# Altium schematic symbol library conn_terminalB.SchLib: 523 symbols (part 4 of 4)
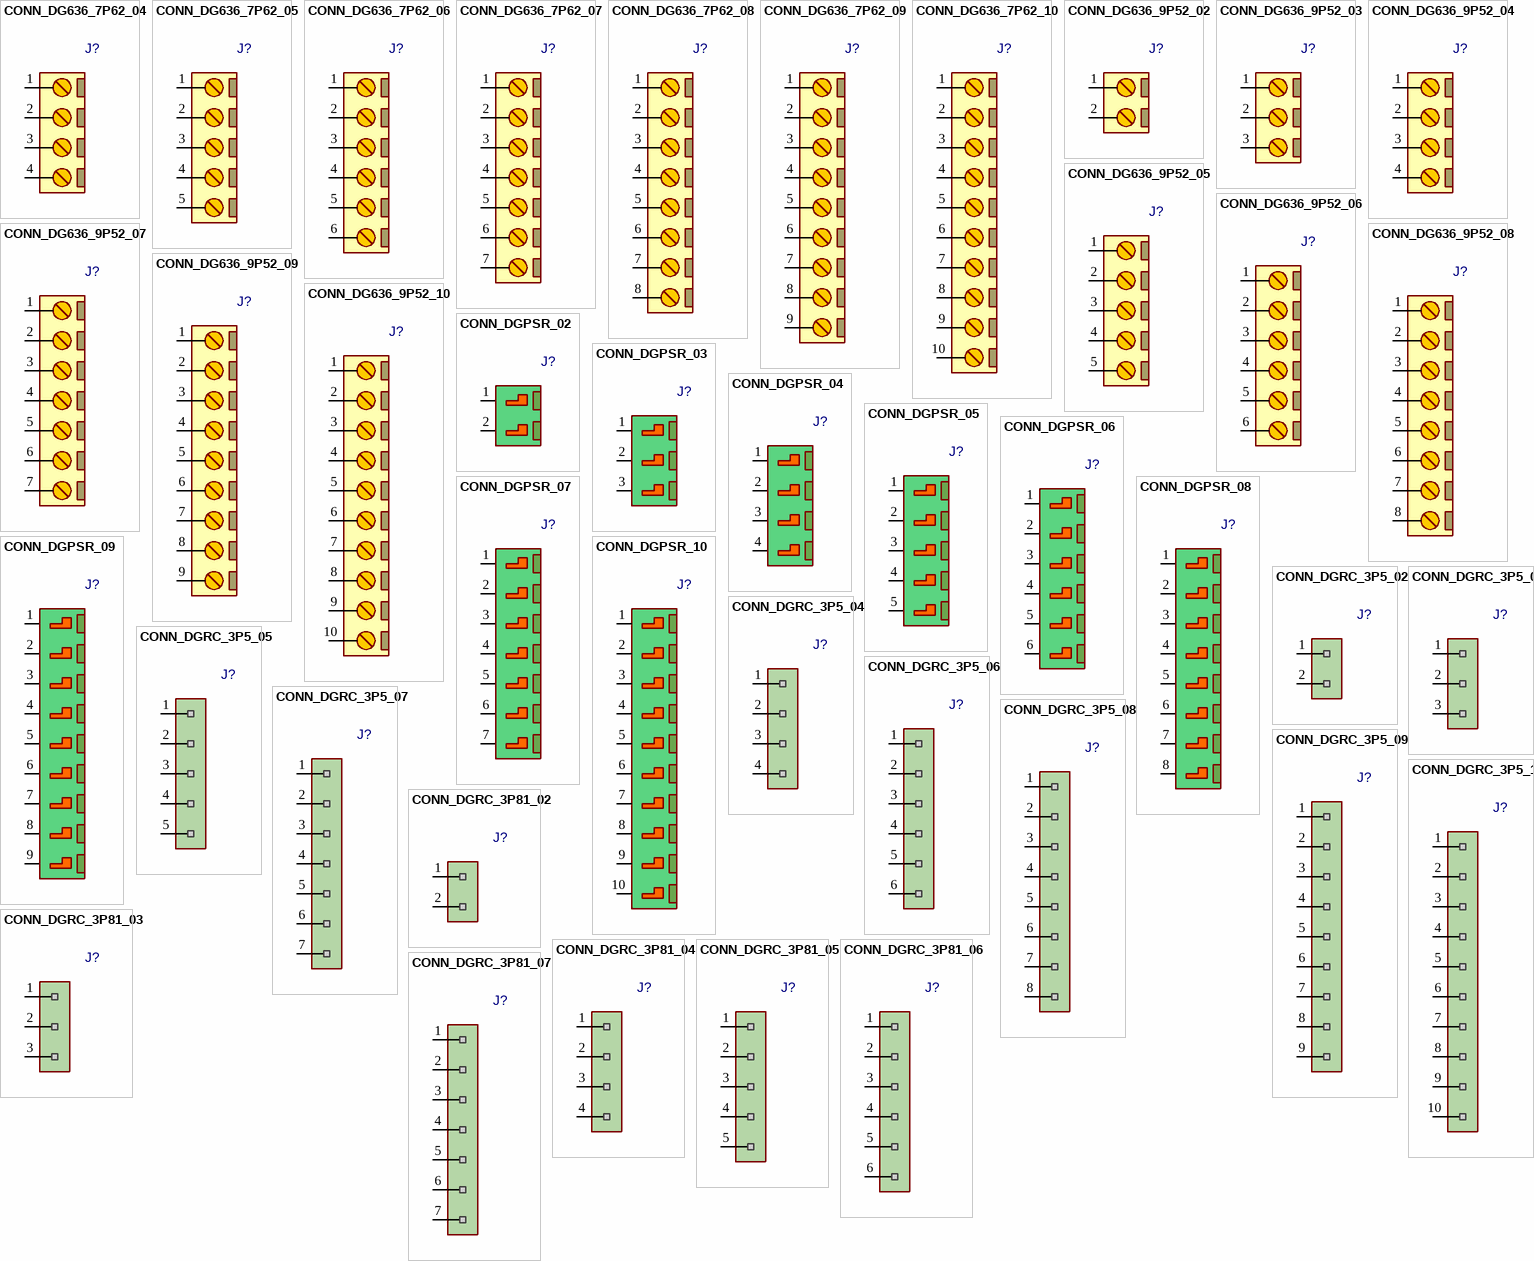
[diagram p16: symbols CONN_DG636_7P62_04 to CONN_DGRC_3P81_07]

## CONN_DG636_7P62_06
designator J?, comment DG636_7P62_06  (value not drawn)
Terminal Block Screw, Pitch 7.62mm, H 21.5mm; MANF: DEGSON; MANF_P#: DG636-7.62-06P; PARAM2: 450v, -40~105°C; PARAM: 30A; VALUE: DG636_7P62_06; Mount Type: THT; Type: Conn.
footprint DG636_7P62_06 (Terminal Screw, pitch 7.62mm, H 21.5mm)
pins: 1, 2, 3, 4, 5, 6

## CONN_DG636_7P62_07
designator J?, comment DG636_7P62_07  (value not drawn)
Terminal Block Screw, Pitch 7.62mm, H 21.5mm; MANF: DEGSON; MANF_P#: DG636-7.62-07P; PARAM2: 450v, -40~105°C; PARAM: 30A; VALUE: DG636_7P62_07; Mount Type: THT; Type: Conn.
footprint DG636_7P62_07 (Terminal Screw, pitch 7.62mm, H 21.5mm)
pins: 1, 2, 3, 4, 5, 6, 7

## CONN_DG636_7P62_08
designator J?, comment DG636_7P62_08  (value not drawn)
Terminal Block Screw, Pitch 7.62mm, H 21.5mm; MANF: DEGSON; MANF_P#: DG636-7.62-08P; PARAM2: 450v, -40~105°C; PARAM: 30A; VALUE: DG636_7P62_08; Mount Type: THT; Type: Conn.
footprint DG636_7P62_08 (Terminal Screw, pitch 7.62mm, H 21.5mm)
pins: 1, 2, 3, 4, 5, 6, 7, 8

## CONN_DG636_7P62_09
designator J?, comment DG636_7P62_09  (value not drawn)
Terminal Block Screw, Pitch 7.62mm, H 21.5mm; MANF: DEGSON; MANF_P#: DG636-7.62-09P; PARAM2: 450v, -40~105°C; PARAM: 30A; VALUE: DG636_7P62_09; Mount Type: THT; Type: Conn.
footprint DG636_7P62_09 (Terminal Screw, pitch 7.62mm, H 21.5mm)
pins: 1, 2, 3, 4, 5, 6, 7, 8, 9

## CONN_DG636_7P62_10
designator J?, comment DG636_7P62_10  (value not drawn)
Terminal Block Screw, Pitch 7.62mm, H 21.5mm; MANF: DEGSON; MANF_P#: DG636-7.62-10P; PARAM2: 450v, -40~105°C; PARAM: 30A; VALUE: DG636_7P62_10; Mount Type: THT; Type: Conn.
footprint DG636_7P62_10 (Terminal Screw, pitch 7.62mm, H 21.5mm)
pins: 1, 2, 3, 4, 5, 6, 7, 8, 9, 10

## CONN_DG636_9P52_02
designator J?, comment DG636_9P52_02  (value not drawn)
Terminal Block Screw, Pitch 9.52mm, H 21.5mm; MANF: DEGSON; MANF_P#: DG636-9.52-02P; PARAM2: 300v, -40~105°C; PARAM: 30A; VALUE: DG636_9P52_02; Mount Type: THT; Type: Conn.
footprint DG636_9P52_02 (Terminal Block Screw, Pitch 9.52mm, 30A/300v)
pins: 1, 2

## CONN_DG636_9P52_03
designator J?, comment DG636_9P52_03  (value not drawn)
Terminal Block Screw, Pitch 9.52mm, H 21.5mm; MANF: DEGSON; MANF_P#: DG636-9.52-03P; PARAM2: 300v, -40~105°C; PARAM: 30A; VALUE: DG636_9P52_03; Mount Type: THT; Type: Conn.
footprint DG636_9P52_03 (Terminal Block Screw, Pitch 9.52mm, 30A/300v)
pins: 1, 2, 3

## CONN_DG636_9P52_04
designator J?, comment DG636_9P52_04  (value not drawn)
Terminal Block Screw, Pitch 9.52mm, H 21.5mm; MANF: DEGSON; MANF_P#: DG636-9.52-04P; PARAM2: 300v, -40~105°C; PARAM: 30A; VALUE: DG636_9P52_04; Mount Type: THT; Type: Conn.
footprint DG636_9P52_04 (Terminal Block Screw, Pitch 9.52mm, 30A/300v)
pins: 1, 2, 3, 4

## CONN_DG636_9P52_05
designator J?, comment DG636_9P52_05  (value not drawn)
Terminal Block Screw, Pitch 9.52mm, H 21.5mm; MANF: DEGSON; MANF_P#: DG636-9.52-05P; PARAM2: 300v, -40~105°C; PARAM: 30A; VALUE: DG636_9P52_05; Mount Type: THT; Type: Conn.
footprint DG636_9P52_05 (Terminal Block Screw, Pitch 9.52mm, 30A/300v)
pins: 1, 2, 3, 4, 5

## CONN_DG636_9P52_06
designator J?, comment DG636_9P52_06  (value not drawn)
Terminal Block Screw, Pitch 9.52mm, H 21.5mm; MANF: DEGSON; MANF_P#: DG636-9.52-06P; PARAM2: 300v, -40~105°C; PARAM: 30A; VALUE: DG636_9P52_06; Mount Type: THT; Type: Conn.
footprint DG636_9P52_06 (Terminal Block Screw, Pitch 9.52mm, 30A/300v)
pins: 1, 2, 3, 4, 5, 6

## CONN_DG636_9P52_07
designator J?, comment DG636_9P52_07  (value not drawn)
Terminal Block Screw, Pitch 9.52mm, H 21.5mm; MANF: DEGSON; MANF_P#: DG636-9.52-07P; PARAM2: 300v, -40~105°C; PARAM: 30A; VALUE: DG636_9P52_07; Mount Type: THT; Type: Conn.
footprint DG636_9P52_07 (Terminal Block Screw, Pitch 9.52mm, 30A/300v)
pins: 1, 2, 3, 4, 5, 6, 7

## CONN_DG636_9P52_08
designator J?, comment DG636_9P52_08  (value not drawn)
Terminal Block Screw, Pitch 9.52mm, H 21.5mm; MANF: DEGSON; MANF_P#: DG636-9.52-08P; PARAM2: 300v, -40~105°C; PARAM: 30A; VALUE: DG636_9P52_08; Mount Type: THT; Type: Conn.
footprint DG636_9P52_08 (Terminal Block Screw, Pitch 9.52mm, 30A/300v)
pins: 1, 2, 3, 4, 5, 6, 7, 8

## CONN_DG636_9P52_09
designator J?, comment DG636_9P52_09  (value not drawn)
Terminal Block Screw, Pitch 9.52mm, H 21.5mm; MANF: DEGSON; MANF_P#: DG636-9.52-09P; PARAM2: 300v, -40~105°C; PARAM: 30A; VALUE: DG636_9P52_09; Mount Type: THT; Type: Conn.
footprint DG636_9P52_09 (Terminal Block Screw, Pitch 9.52mm, 30A/300v)
pins: 1, 2, 3, 4, 5, 6, 7, 8, 9

## CONN_DG636_9P52_10
designator J?, comment DG636_9P52_10  (value not drawn)
Terminal Block Screw, Pitch 9.52mm, H 21.5mm; MANF: DEGSON; MANF_P#: DG636-9.52-10P; PARAM2: 300v, -40~105°C; PARAM: 30A; VALUE: DG636_9P52_10; Mount Type: THT; Type: Conn.
footprint DG636_9P52_10 (Terminal Block Screw, Pitch 9.52mm, 30A/300v)
pins: 1, 2, 3, 4, 5, 6, 7, 8, 9, 10

## CONN_DGPSR_02
designator J?, comment DGPSR_02  (value not drawn)
Terminal Block Spring, Pitch 5mm, H 13.9mm; MANF: DEGSON; MANF_P#: DGPS2.5R-5.0-02P; PARAM2: 300v, -40~105°C; PARAM: 15A; VALUE: DGPSR_02; Mount Type: THT; Type: Conn.
footprint DGPSR_02 (Terminal Block Spring, Pitch 5mm, DGPS2.5R-5.0)
pins: 1, 2

## CONN_DGPSR_03
designator J?, comment DGPSR_03  (value not drawn)
Terminal Block Spring, Pitch 5mm, H 13.9mm; MANF: DEGSON; MANF_P#: DGPS2.5R-5.0-03P; PARAM2: 300v, -40~105°C; PARAM: 15A; VALUE: DGPSR_03; Mount Type: THT; Type: Conn.
footprint DGPSR_03 (Terminal Block Spring, Pitch 5mm, DGPS2.5R-5.0)
pins: 1, 2, 3

## CONN_DGPSR_04
designator J?, comment DGPSR_04  (value not drawn)
Terminal Block Spring, Pitch 5mm, H 13.9mm; MANF: DEGSON; MANF_P#: DGPS2.5R-5.0-04P; PARAM2: 300v, -40~105°C; PARAM: 15A; VALUE: DGPSR_04; Mount Type: THT; Type: Conn.
footprint DGPSR_04 (Terminal Block Spring, Pitch 5mm, DGPS2.5R-5.0)
pins: 1, 2, 3, 4

## CONN_DGPSR_05
designator J?, comment DGPSR_05  (value not drawn)
Terminal Block Spring, Pitch 5mm, H 13.9mm; MANF: DEGSON; MANF_P#: DGPS2.5R-5.0-05P; PARAM2: 300v, -40~105°C; PARAM: 15A; VALUE: DGPSR_05; Mount Type: THT; Type: Conn.
footprint DGPSR_05 (Terminal Block Spring, Pitch 5mm, DGPS2.5R-5.0)
pins: 1, 2, 3, 4, 5

## CONN_DGPSR_06
designator J?, comment DGPSR_06  (value not drawn)
Terminal Block Spring, Pitch 5mm, H 13.9mm; MANF: DEGSON; MANF_P#: DGPS2.5R-5.0-06P; PARAM2: 300v, -40~105°C; PARAM: 15A; VALUE: DGPSR_06; Mount Type: THT; Type: Conn.
footprint DGPSR_06 (Terminal Block Spring, Pitch 5mm, DGPS2.5R-5.0)
pins: 1, 2, 3, 4, 5, 6

## CONN_DGPSR_07
designator J?, comment DGPSR_07  (value not drawn)
Terminal Block Spring, Pitch 5mm, H 13.9mm; MANF: DEGSON; MANF_P#: DGPS2.5R-5.0-07P; PARAM2: 300v, -40~105°C; PARAM: 15A; VALUE: DGPSR_07; Mount Type: THT; Type: Conn.
footprint DGPSR_07 (Terminal Block Spring, Pitch 5mm, DGPS2.5R-5.0)
pins: 1, 2, 3, 4, 5, 6, 7

## CONN_DGPSR_08
designator J?, comment DGPSR_08  (value not drawn)
Terminal Block Spring, Pitch 5mm, H 13.9mm; MANF: DEGSON; MANF_P#: DGPS2.5R-5.0-08P; PARAM2: 300v, -40~105°C; PARAM: 15A; VALUE: DGPSR_08; Mount Type: THT; Type: Conn.
footprint DGPSR_08 (Terminal Block Spring, Pitch 5mm, DGPS2.5R-5.0)
pins: 1, 2, 3, 4, 5, 6, 7, 8

## CONN_DGPSR_09
designator J?, comment DGPSR_09  (value not drawn)
Terminal Block Spring, Pitch 5mm, H 13.9mm; MANF: DEGSON; MANF_P#: DGPS2.5R-5.0-09P; PARAM2: 300v, -40~105°C; PARAM: 15A; VALUE: DGPSR_09; Mount Type: THT; Type: Conn.
footprint DGPSR_09 (Terminal Block Spring, Pitch 5mm, DGPS2.5R-5.0)
pins: 1, 2, 3, 4, 5, 6, 7, 8, 9

## CONN_DGPSR_10
designator J?, comment DGPSR_10  (value not drawn)
Terminal Block Spring, Pitch 5mm, H 13.9mm; MANF: DEGSON; MANF_P#: DGPS2.5R-5.0-10P; PARAM2: 300v, -40~105°C; PARAM: 15A; VALUE: DGPSR_10; Mount Type: THT; Type: Conn.
footprint DGPSR_10 (Terminal Block Spring, Pitch 5mm, DGPS2.5R-5.0)
pins: 1, 2, 3, 4, 5, 6, 7, 8, 9, 10

## CONN_DGRC_3P5_02
designator J?, comment DGRC_3P5_02  (value not drawn)
Terminal Block Pluggable, Pitch 3.5mm, H 7mm, Horizental; MANF: DEGSON; MANF_P#: 15EDGRC-3.5-02P, MC 1,5/ 2-G-3,5, mating 15EDGK-3.5; PARAM2: 300v, -40~105°C; PARAM: 8A; VALUE: DGRC_3P5_02; Mount Type: THT; Type: Conn.
footprint DGRC_3P5_GRN_02 (Terminal Block Pluggable, 15EDGRC-3.5-0xP-14, Green, 8A/300v)
footprint DGRC_3P5_GRN_02_ASSY (Terminal Block Pluggable, 15EDGRC-3.5-0xP-14, Green, 8A/300v)
pins: 1, 2

## CONN_DGRC_3P5_03
designator J?, comment DGRC_3P5_03  (value not drawn)
Terminal Block Pluggable, Pitch 3.5mm, H 7mm, Horizental; MANF: DEGSON; MANF_P#: 15EDGRC-3.5-03P, MC 1,5/ 3-G-3,5, mating 15EDGK-3.5; PARAM2: 300v, -40~105°C; PARAM: 8A; VALUE: DGRC_3P5_03; Mount Type: THT; Type: Conn.
footprint DGRC_3P5_GRN_03 (Terminal Block Pluggable, 15EDGRC-3.5-0xP-14, Green, 8A/300v)
footprint DGRC_3P5_GRN_03_ASSY (Terminal Block Pluggable, 15EDGRC-3.5-0xP-14, Green, 8A/300v)
pins: 1, 2, 3

## CONN_DGRC_3P5_04
designator J?, comment DGRC_3P5_04  (value not drawn)
Terminal Block Pluggable, Pitch 3.5mm, H 7mm, Horizental; MANF: DEGSON; MANF_P#: 15EDGRC-3.5-04P, MC 1,5/ 4-G-3,5, mating 15EDGK-3.5; PARAM2: 300v, -40~105°C; PARAM: 8A; VALUE: DGRC_3P5_04; Mount Type: THT; Type: Conn.
footprint DGRC_3P5_GRN_04 (Terminal Block Pluggable, 15EDGRC-3.5-0xP-14, Green, 8A/300v)
footprint DGRC_3P5_GRN_04_ASSY (Terminal Block Pluggable, 15EDGRC-3.5-0xP-14, Green, 8A/300v)
pins: 1, 2, 3, 4

## CONN_DGRC_3P5_05
designator J?, comment DGRC_3P5_05  (value not drawn)
Terminal Block Pluggable, Pitch 3.5mm, H 7mm, Horizental; MANF: DEGSON; MANF_P#: 15EDGRC-3.5-05P, MC 1,5/ 5-G-3,5, mating 15EDGK-3.5; PARAM2: 300v, -40~105°C; PARAM: 8A; VALUE: DGRC_3P5_05; Mount Type: THT; Type: Conn.
footprint DGRC_3P5_GRN_05 (Terminal Block Pluggable, 15EDGRC-3.5-0xP-14, Green, 8A/300v)
footprint DGRC_3P5_GRN_05_ASSY (Terminal Block Pluggable, 15EDGRC-3.5-0xP-14, Green, 8A/300v)
pins: 1, 2, 3, 4, 5

## CONN_DGRC_3P5_06
designator J?, comment DGRC_3P5_06  (value not drawn)
Terminal Block Pluggable, Pitch 3.5mm, H 7mm, Horizental; MANF: DEGSON; MANF_P#: 15EDGRC-3.5-06P, MC 1,5/ 6-G-3,5, mating 15EDGK-3.5; PARAM2: 300v, -40~105°C; PARAM: 8A; VALUE: DGRC_3P5_06; Mount Type: THT; Type: Conn.
footprint DGRC_3P5_GRN_06 (Terminal Block Pluggable, 15EDGRC-3.5-0xP-14, Green, 8A/300v)
pins: 1, 2, 3, 4, 5, 6

## CONN_DGRC_3P5_07
designator J?, comment DGRC_3P5_07  (value not drawn)
Terminal Block Pluggable, Pitch 3.5mm, H 7mm, Horizental; MANF: DEGSON; MANF_P#: 15EDGRC-3.5-07P, MC 1,5/ 7-G-3,5, mating 15EDGK-3.5; PARAM2: 300v, -40~105°C; PARAM: 8A; VALUE: DGRC_3P5_07; Mount Type: THT; Type: Conn.
footprint DGRC_3P5_GRN_07 (Terminal Block Pluggable, 15EDGRC-3.5-0xP-14, Green, 8A/300v)
pins: 1, 2, 3, 4, 5, 6, 7

## CONN_DGRC_3P5_08
designator J?, comment DGRC_3P5_08  (value not drawn)
Terminal Block Pluggable, Pitch 3.5mm, H 7mm, Horizental; MANF: DEGSON; MANF_P#: 15EDGRC-3.5-08P, MC 1,5/ 8-G-3,5, mating 15EDGK-3.5; PARAM2: 300v, -40~105°C; PARAM: 8A; VALUE: DGRC_3P5_08; Mount Type: THT; Type: Conn.
footprint DGRC_3P5_GRN_08 (Terminal Block Pluggable, 15EDGRC-3.5-0xP-14, Green, 8A/300v)
pins: 1, 2, 3, 4, 5, 6, 7, 8

## CONN_DGRC_3P5_09
designator J?, comment DGRC_3P5_09  (value not drawn)
Terminal Block Pluggable, Pitch 3.5mm, H 7mm, Horizental; MANF: DEGSON; MANF_P#: 15EDGRC-3.5-09P, MC 1,5/ 9-G-3,5, mating 15EDGK-3.5; PARAM2: 300v, -40~105°C; PARAM: 8A; VALUE: DGRC_3P5_09; Mount Type: THT; Type: Conn.
footprint DGRC_3P5_GRN_09 (Terminal Block Pluggable, 15EDGRC-3.5-0xP-14, Green, 8A/300v)
pins: 1, 2, 3, 4, 5, 6, 7, 8, 9

## CONN_DGRC_3P5_10
designator J?, comment DGRC_3P5_10  (value not drawn)
Terminal Block Pluggable, Pitch 3.5mm, H 7mm, Horizental; MANF: DEGSON; MANF_P#: 15EDGRC-3.5-10P, MC 1,5/ 10-G-3,5, mating 15EDGK-3.5; PARAM2: 300v, -40~105°C; PARAM: 8A; VALUE: DGRC_3P5_10; Mount Type: THT; Type: Conn.
footprint DGRC_3P5_GRN_10 (Terminal Block Pluggable, 15EDGRC-3.5-xxP-14, Green, 8A/300v)
pins: 1, 2, 3, 4, 5, 6, 7, 8, 9, 10

## CONN_DGRC_3P81_02
designator J?, comment DGRC_3P81_02  (value not drawn)
Terminal Block Pluggable, Pitch 3.81mm, H 7.1mm, Horizental; MANF: DEGSON; MANF_P#: 15EDGRC-3.81-02P, KF2EDGR-Y-3.81-02P, mating 15EDGK-3.81; PARAM2: 250v, -40~105°C; PARAM: 7A; VALUE: DGRC_3P81_02; Mount Type: THT; Type: Conn.
footprint DGRC_3P81_02 (Terminal Block, 3.81mm pitch, Right Angle)
footprint DGRC_3P81_02_ASSY (PHOENIX MC 1.5, EDGK-3.81, 3.81mm pitch, 2pin)
pins: 1, 2

## CONN_DGRC_3P81_03
designator J?, comment DGRC_3P81_03  (value not drawn)
Terminal Block Pluggable, Pitch 3.81mm, H 7.1mm, Horizental; MANF: DEGSON; MANF_P#: 15EDGRC-3.81-03P, KF2EDGR-Y-3.81-03P, mating 15EDGK-3.81; PARAM2: 250v, -40~105°C; PARAM: 7A; VALUE: DGRC_3P81_03; Mount Type: THT; Type: Conn.
footprint DGRC_3P81_03 (Terminal Block, 3.81mm pitch, Right Angle)
footprint DGRC_3P81_03_ASSY (PHOENIX MC 1.5, EDGK-3.81, 3.81mm pitch, 3pin)
pins: 1, 2, 3

## CONN_DGRC_3P81_04
designator J?, comment DGRC_3P81_04  (value not drawn)
Terminal Block Pluggable, Pitch 3.81mm, H 7.1mm, Horizental; MANF: DEGSON; MANF_P#: 15EDGRC-3.81-04P, KF2EDGR-Y-3.81-04P, mating 15EDGK-3.81; PARAM2: 250v, -40~105°C; PARAM: 7A; VALUE: DGRC_3P81_04; Mount Type: THT; Type: Conn.
footprint DGRC_3P81_04 (Terminal Block, 3.81mm pitch, Right Angle)
footprint DGRC_3P81_04_ASSY (PHOENIX MC 1.5, EDGK-3.81, 3.81mm pitch, 4pin)
pins: 1, 2, 3, 4

## CONN_DGRC_3P81_05
designator J?, comment DGRC_3P81_05  (value not drawn)
Terminal Block Pluggable, Pitch 3.81mm, H 7.1mm, Horizental; MANF: DEGSON; MANF_P#: 15EDGRC-3.81-05P, KF2EDGR-Y-3.81-05P, mating 15EDGK-3.81; PARAM2: 250v, -40~105°C; PARAM: 7A; VALUE: DGRC_3P81_05; Mount Type: THT; Type: Conn.
footprint DGRC_3P81_05 (Terminal Block, 3.81mm pitch, Right Angle)
footprint DGRC_3P81_05_ASSY (PHOENIX MC 1.5, EDGK-3.81, 3.81mm pitch, 5pin)
pins: 1, 2, 3, 4, 5

## CONN_DGRC_3P81_06
designator J?, comment DGRC_3P81_06  (value not drawn)
Terminal Block Pluggable, Pitch 3.81mm, H 7.1mm, Horizental; MANF: DEGSON; MANF_P#: 15EDGRC-3.81-06P, KF2EDGR-Y-3.81-06P, mating 15EDGK-3.81; PARAM2: 250v, -40~105°C; PARAM: 7A; VALUE: DGRC_3P81_06; Mount Type: THT; Type: Conn.
footprint DGRC_3P81_06 (Terminal Block, 3.81mm pitch, Right Angle)
footprint DGRC_3P81_06_ASSY (PHOENIX MC 1.5, EDGK-3.81, 3.81mm pitch, 6pin)
pins: 1, 2, 3, 4, 5, 6

## CONN_DGRC_3P81_07
designator J?, comment DGRC_3P81_07  (value not drawn)
Terminal Block Pluggable, Pitch 3.81mm, H 7.1mm, Horizental; MANF: DEGSON; MANF_P#: 15EDGRC-3.81-07P, KF2EDGR-Y-3.81-07P, mating 15EDGK-3.81; PARAM2: 250v, -40~105°C; PARAM: 7A; VALUE: DGRC_3P81_07; Mount Type: THT; Type: Conn.
footprint DGRC_3P81_07 (Terminal Block, 3.81mm pitch, Right Angle)
footprint DGRC_3P81_07_ASSY (PHOENIX MC 1.5, EDGK-3.81, 3.81mm pitch, 7pin)
pins: 1, 2, 3, 4, 5, 6, 7

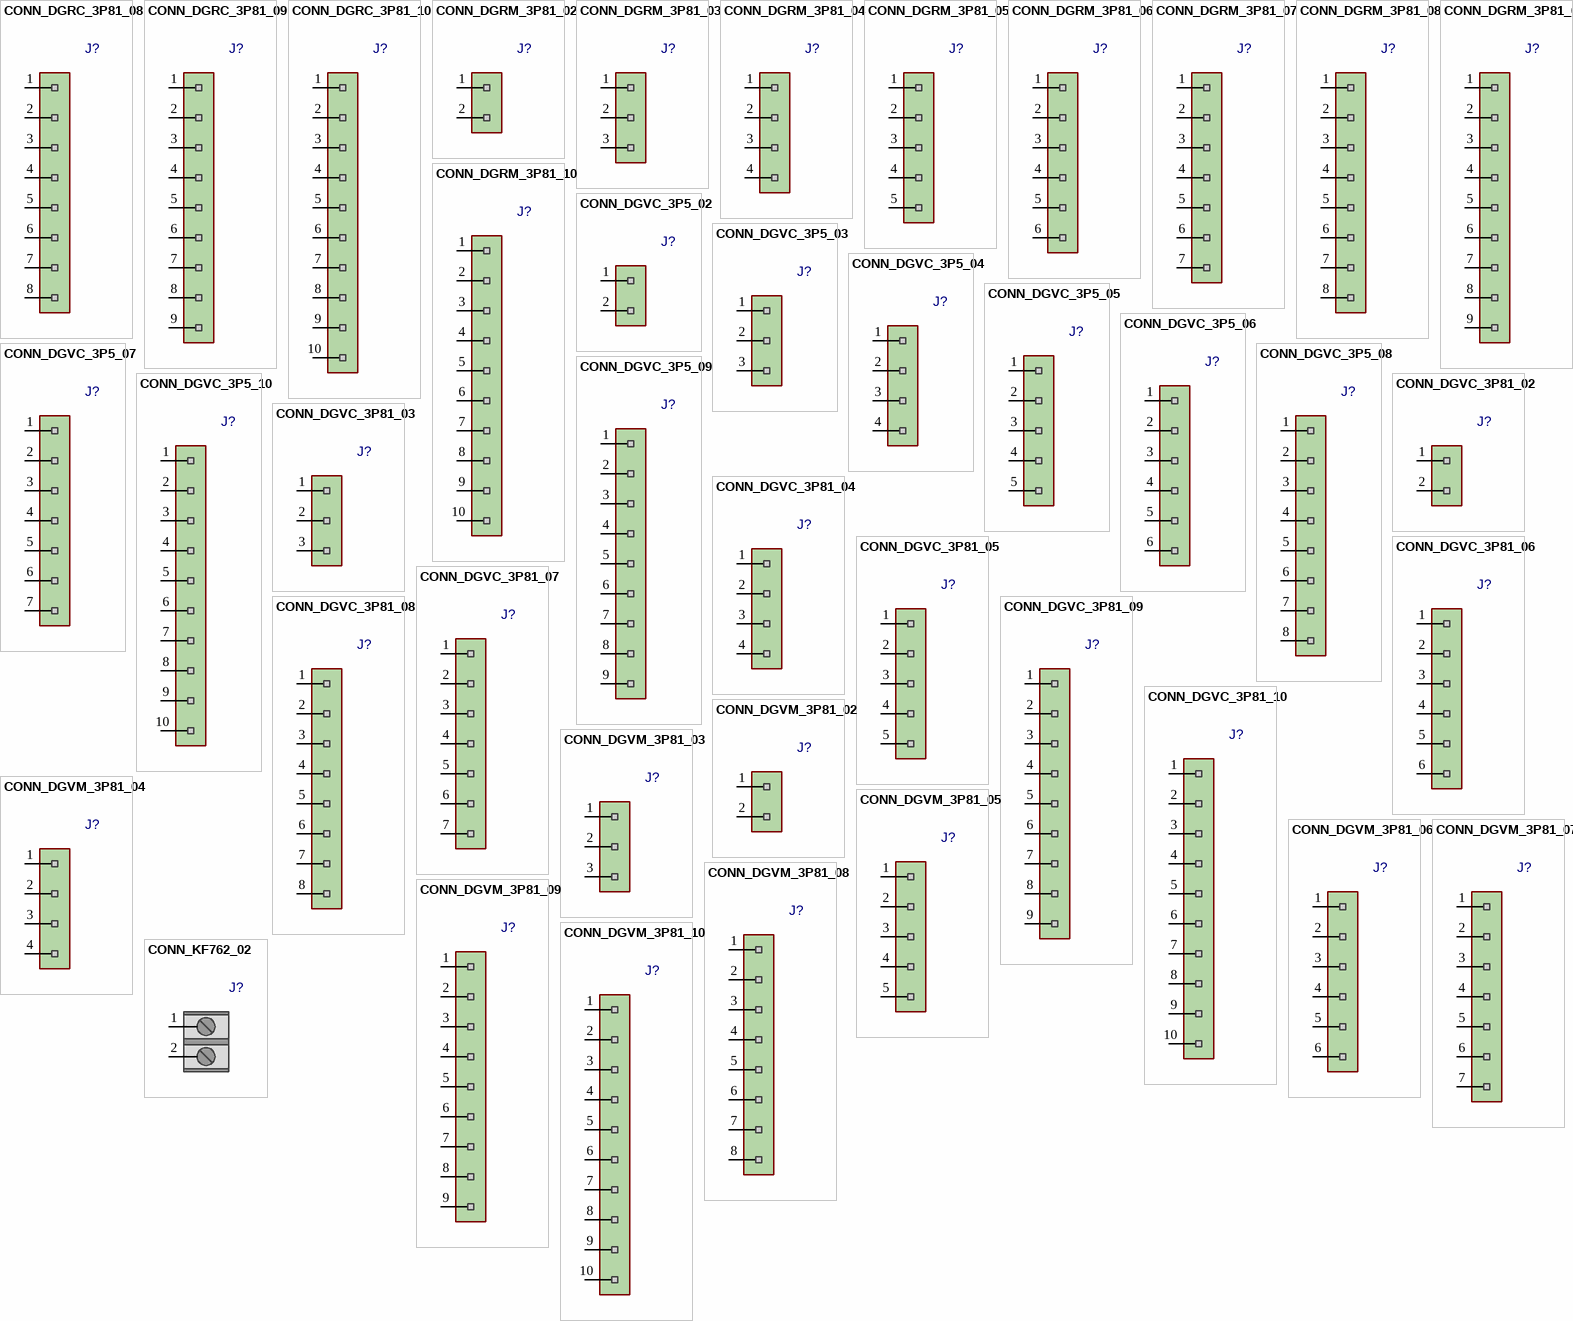
[diagram p11: symbols CONN_DGRC_3P81_08 to CONN_KF762_02]

## CONN_DGRC_3P81_08
designator J?, comment DGRC_3P81_08  (value not drawn)
Terminal Block Pluggable, Pitch 3.81mm, H 7.1mm, Horizental; MANF: DEGSON; MANF_P#: 15EDGRC-3.81-08P, KF2EDGR-Y-3.81-08P, mating 15EDGK-3.81; PARAM2: 250v, -40~105°C; PARAM: 7A; VALUE: DGRC_3P81_08; Mount Type: THT; Type: Conn.
footprint DGRC_3P81_08 (Terminal Block, 3.81mm pitch, Right Angle)
footprint DGRC_3P81_08_ASSY (PHOENIX MC 1.5, EDGK-3.81, 3.81mm pitch, 8pin)
pins: 1, 2, 3, 4, 5, 6, 7, 8

## CONN_DGRC_3P81_09
designator J?, comment DGRC_3P81_09  (value not drawn)
Terminal Block Pluggable, Pitch 3.81mm, H 7.1mm, Horizental; MANF: DEGSON; MANF_P#: 15EDGRC-3.81-09P, KF2EDGR-Y-3.81-09P, mating 15EDGK-3.81; PARAM2: 250v, -40~105°C; PARAM: 7A; VALUE: DGRC_3P81_09; Mount Type: THT; Type: Conn.
footprint DGRC_3P81_09 (Terminal Block, 3.81mm pitch, Right Angle)
footprint DGRC_3P81_09_ASSY (PHOENIX MC 1.5, EDGK-3.81, 3.81mm pitch, 9pin)
pins: 1, 2, 3, 4, 5, 6, 7, 8, 9

## CONN_DGRC_3P81_10
designator J?, comment DGRC_3P81_10  (value not drawn)
Terminal Block Pluggable, Pitch 3.81mm, H 7.1mm, Horizental; MANF: DEGSON; MANF_P#: 15EDGRC-3.81-10P, KF2EDGR-Y-3.81-10P, mating 15EDGK-3.81; PARAM2: 250v, -40~105°C; PARAM: 7A; VALUE: DGRC_3P81_10; Mount Type: THT; Type: Conn.
footprint DGRC_3P81_10 (Terminal Block, 3.81mm pitch, Right Angle)
footprint DGRC_3P81_10_ASSY (PHOENIX MC 1.5, EDGK-3.81, 3.81mm pitch, 10pin)
pins: 1, 2, 3, 4, 5, 6, 7, 8, 9, 10

## CONN_DGRM_3P81_02
designator J?, comment DGRM_3P81_02  (value not drawn)
Terminal Block Pluggable, Pitch 3.81mm, H 7.1mm, Horizental, Screw fixed; MANF: DEGSON; MANF_P#: 15EDGRM-3.81-02P; PARAM2: 250v, -40~105°C; PARAM: 7A; VALUE: DGRM_3P81_02; Mount Type: THT; Type: Conn.
footprint DGRM_3P81_02 (Terminal Block, 3.81mm pitch, Right Angle, Screw fixed)
pins: 1, 2

## CONN_DGRM_3P81_03
designator J?, comment DGRM_3P81_03  (value not drawn)
Terminal Block Pluggable, Pitch 3.81mm, H 7.1mm, Horizental, Screw fixed; MANF: DEGSON; MANF_P#: 15EDGRM-3.81-03P; PARAM2: 250v, -40~105°C; PARAM: 7A; VALUE: DGRM_3P81_03; Mount Type: THT; Type: Conn.
footprint DGRM_3P81_03 (Terminal Block, 3.81mm pitch, Right Angle, Screw fixed)
pins: 1, 2, 3

## CONN_DGRM_3P81_04
designator J?, comment DGRM_3P81_04  (value not drawn)
Terminal Block Pluggable, Pitch 3.81mm, H 7.1mm, Horizental, Screw fixed; MANF: DEGSON; MANF_P#: 15EDGRM-3.81-04P; PARAM2: 250v, -40~105°C; PARAM: 7A; VALUE: DGRM_3P81_04; Mount Type: THT; Type: Conn.
footprint DGRM_3P81_04 (Terminal Block, 3.81mm pitch, Right Angle, Screw fixed)
pins: 1, 2, 3, 4

## CONN_DGRM_3P81_05
designator J?, comment DGRM_3P81_05  (value not drawn)
Terminal Block Pluggable, Pitch 3.81mm, H 7.1mm, Horizental, Screw fixed; MANF: DEGSON; MANF_P#: 15EDGRM-3.81-05P; PARAM2: 250v, -40~105°C; PARAM: 7A; VALUE: DGRM_3P81_05; Mount Type: THT; Type: Conn.
footprint DGRM_3P81_05 (Terminal Block, 3.81mm pitch, Right Angle, Screw fixed)
pins: 1, 2, 3, 4, 5

## CONN_DGRM_3P81_06
designator J?, comment DGRM_3P81_06  (value not drawn)
Terminal Block Pluggable, Pitch 3.81mm, H 7.1mm, Horizental, Screw fixed; MANF: DEGSON; MANF_P#: 15EDGRM-3.81-06P; PARAM2: 250v, -40~105°C; PARAM: 7A; VALUE: DGRM_3P81_06; Mount Type: THT; Type: Conn.
footprint DGRM_3P81_06 (Terminal Block, 3.81mm pitch, Right Angle, Screw fixed)
pins: 1, 2, 3, 4, 5, 6

## CONN_DGRM_3P81_07
designator J?, comment DGRM_3P81_07  (value not drawn)
Terminal Block Pluggable, Pitch 3.81mm, H 7.1mm, Horizental, Screw fixed; MANF: DEGSON; MANF_P#: 15EDGRM-3.81-07P; PARAM2: 250v, -40~105°C; PARAM: 7A; VALUE: DGRM_3P81_07; Mount Type: THT; Type: Conn.
footprint DGRM_3P81_07 (Terminal Block, 3.81mm pitch, Right Angle, Screw fixed)
pins: 1, 2, 3, 4, 5, 6, 7

## CONN_DGRM_3P81_08
designator J?, comment DGRM_3P81_08  (value not drawn)
Terminal Block Pluggable, Pitch 3.81mm, H 7.1mm, Horizental, Screw fixed; MANF: DEGSON; MANF_P#: 15EDGRM-3.81-08P; PARAM2: 250v, -40~105°C; PARAM: 7A; VALUE: DGRM_3P81_08; Mount Type: THT; Type: Conn.
footprint DGRM_3P81_08 (Terminal Block, 3.81mm pitch, Right Angle, Screw fixed)
pins: 1, 2, 3, 4, 5, 6, 7, 8

## CONN_DGRM_3P81_09
designator J?, comment DGRM_3P81_09  (value not drawn)
Terminal Block Pluggable, Pitch 3.81mm, H 7.1mm, Horizental, Screw fixed; MANF: DEGSON; MANF_P#: 15EDGRM-3.81-09P; PARAM2: 250v, -40~105°C; PARAM: 7A; VALUE: DGRM_3P81_09; Mount Type: THT; Type: Conn.
footprint DGRM_3P81_09 (Terminal Block, 3.81mm pitch, Right Angle, Screw fixed)
pins: 1, 2, 3, 4, 5, 6, 7, 8, 9

## CONN_DGRM_3P81_10
designator J?, comment DGRM_3P81_10  (value not drawn)
Terminal Block Pluggable, Pitch 3.81mm, H 7.1mm, Horizental, Screw fixed; MANF: DEGSON; MANF_P#: 15EDGRM-3.81-10P; PARAM2: 250v, -40~105°C; PARAM: 7A; VALUE: DGRM_3P81_10; Mount Type: THT; Type: Conn.
footprint DGRM_3P81_10 (Terminal Block, 3.81mm pitch, Right Angle, Screw fixed)
pins: 1, 2, 3, 4, 5, 6, 7, 8, 9, 10

## CONN_DGVC_3P5_02
designator J?, comment DGVC_3P5_02  (value not drawn)
Terminal Block Pluggable, Pitch 3.5mm, H 9.2mm, Vertical; MANF: DEGSON; MANF_P#: 15EDGVC-3.5-02P; PARAM2: 300v, -40~105°C; PARAM: 8A; VALUE: DGVC_3P5_02; Mount Type: THT; Type: Conn.
footprint DGVC_3P5_GRN_02 (Terminal Block Pluggable, 15EDGVC-3.5-0xP-14, Green, 8A/300v)
footprint DGVC_3P5_GRN_02_ASSY (Terminal Block Pluggable, 15EDGVC-3.5-0xP-14, Green, 8A/300v)
pins: 1, 2

## CONN_DGVC_3P5_03
designator J?, comment DGVC_3P5_03  (value not drawn)
Terminal Block Pluggable, Pitch 3.5mm, H 9.2mm, Vertical; MANF: DEGSON; MANF_P#: 15EDGVC-3.5-03P; PARAM2: 300v, -40~105°C; PARAM: 8A; VALUE: DGVC_3P5_03; Mount Type: THT; Type: Conn.
footprint DGVC_3P5_GRN_03 (Terminal Block Pluggable, 15EDGVC-3.5-0xP-14, Green, 8A/300v)
footprint DGVC_3P5_GRN_03_ASSY (Terminal Block Pluggable, 15EDGVC-3.5-0xP-14, Green, 8A/300v)
pins: 1, 2, 3

## CONN_DGVC_3P5_04
designator J?, comment DGVC_3P5_04  (value not drawn)
Terminal Block Pluggable, Pitch 3.5mm, H 9.2mm, Vertical; MANF: DEGSON; MANF_P#: 15EDGVC-3.5-04P; PARAM2: 300v, -40~105°C; PARAM: 8A; VALUE: DGVC_3P5_04; Mount Type: THT; Type: Conn.
footprint DGVC_3P5_GRN_04 (Terminal Block Pluggable, 15EDGVC-3.5-0xP-14, Green, 8A/300v)
footprint DGVC_3P5_GRN_04_ASSY (Terminal Block Pluggable, 15EDGVC-3.5-0xP-14, Green, 8A/300v)
pins: 1, 2, 3, 4

## CONN_DGVC_3P5_05
designator J?, comment DGVC_3P5_05  (value not drawn)
Terminal Block Pluggable, Pitch 3.5mm, H 9.2mm, Vertical; MANF: DEGSON; MANF_P#: 15EDGVC-3.5-05P; PARAM2: 300v, -40~105°C; PARAM: 8A; VALUE: DGVC_3P5_05; Mount Type: THT; Type: Conn.
footprint DGVC_3P5_GRN_05 (Terminal Block Pluggable, 15EDGVC-3.5-0xP-14, Green, 8A/300v)
footprint DGVC_3P5_GRN_05_ASSY (Terminal Block Pluggable, 15EDGVC-3.5-0xP-14, Green, 8A/300v)
pins: 1, 2, 3, 4, 5

## CONN_DGVC_3P5_06
designator J?, comment DGVC_3P5_06  (value not drawn)
Terminal Block Pluggable, Pitch 3.5mm, H 9.2mm, Vertical; MANF: DEGSON; MANF_P#: 15EDGVC-3.5-06P; PARAM2: 300v, -40~105°C; PARAM: 8A; VALUE: DGVC_3P5_06; Mount Type: THT; Type: Conn.
footprint DGVC_3P5_GRN_06 (Terminal Block Pluggable, 15EDGVC-3.5-0xP-14, Green, 8A/300v)
pins: 1, 2, 3, 4, 5, 6

## CONN_DGVC_3P5_07
designator J?, comment DGVC_3P5_07  (value not drawn)
Terminal Block Pluggable, Pitch 3.5mm, H 9.2mm, Vertical; MANF: DEGSON; MANF_P#: 15EDGVC-3.5-07P; PARAM2: 300v, -40~105°C; PARAM: 8A; VALUE: DGVC_3P5_07; Mount Type: THT; Type: Conn.
footprint DGVC_3P5_GRN_07 (Terminal Block Pluggable, 15EDGVC-3.5-0xP-14, Green, 8A/300v)
pins: 1, 2, 3, 4, 5, 6, 7

## CONN_DGVC_3P5_08
designator J?, comment DGVC_3P5_08  (value not drawn)
Terminal Block Pluggable, Pitch 3.5mm, H 9.2mm, Vertical; MANF: DEGSON; MANF_P#: 15EDGVC-3.5-08P; PARAM2: 300v, -40~105°C; PARAM: 8A; VALUE: DGVC_3P5_08; Mount Type: THT; Type: Conn.
footprint DGVC_3P5_GRN_08 (Terminal Block Pluggable, 15EDGVC-3.5-0xP-14, Green, 8A/300v)
pins: 1, 2, 3, 4, 5, 6, 7, 8

## CONN_DGVC_3P5_09
designator J?, comment DGVC_3P5_09  (value not drawn)
Terminal Block Pluggable, Pitch 3.5mm, H 9.2mm, Vertical; MANF: DEGSON; MANF_P#: 15EDGVC-3.5-09P; PARAM2: 300v, -40~105°C; PARAM: 8A; VALUE: DGVC_3P5_09; Mount Type: THT; Type: Conn.
footprint DGVC_3P5_GRN_09 (Terminal Block Pluggable, 15EDGVC-3.5-0xP-14, Green, 8A/300v)
pins: 1, 2, 3, 4, 5, 6, 7, 8, 9

## CONN_DGVC_3P5_10
designator J?, comment DGVC_3P5_10  (value not drawn)
Terminal Block Pluggable, Pitch 3.5mm, H 9.2mm, Vertical; MANF: DEGSON; MANF_P#: 15EDGVC-3.5-10P; PARAM2: 300v, -40~105°C; PARAM: 8A; VALUE: DGVC_3P5_10; Mount Type: THT; Type: Conn.
footprint DGVC_3P5_GRN_10 (Terminal Block Pluggable, 15EDGVC-3.5-0xP-14, Green, 8A/300v)
pins: 1, 2, 3, 4, 5, 6, 7, 8, 9, 10

## CONN_DGVC_3P81_02
designator J?, comment DGVC_3P81_02  (value not drawn)
Terminal Block Pluggable, Pitch 3.81mm, H 7.1mm, Vertical; MANF: DEGSON; MANF_P#: 15EDGVC-3.81-02P, KF2EDGV-Y-3.81-02P, mating 15EDGK-3.81; PARAM2: 250v, -40~105°C; PARAM: 7A; VALUE: DGVC_3P81_02; Mount Type: THT; Type: Conn.
footprint DGVC_3P81_02_BLU (Terminal Block, 3.81mm pitch, Straight, Blue)
footprint DGRC_3P81_02_ASSY (PHOENIX MC 1.5, EDGK-3.81, 3.81mm pitch, 2pin)
pins: 1, 2

## CONN_DGVC_3P81_03
designator J?, comment DGVC_3P81_03  (value not drawn)
Terminal Block Pluggable, Pitch 3.81mm, H 7.1mm; MANF: DEGSON; MANF_P#: 15EDGVC-3.81-03P, KF2EDGV-Y-3.81-03P, mating 15EDGK-3.81; PARAM2: 250v, -40~105°C; PARAM: 7A; VALUE: DGVC_3P81_03; Mount Type: THT; Type: Conn.
footprint DGVC_3P81_03 (Terminal Block, 3.81mm pitch, Straight)
pins: 1, 2, 3

## CONN_DGVC_3P81_04
designator J?, comment DGVC_3P81_04  (value not drawn)
Terminal Block Pluggable, Pitch 3.81mm, H 7.1mm; MANF: DEGSON; MANF_P#: 15EDGVC-3.81-04P, KF2EDGV-Y-3.81-04P, mating 15EDGK-3.81; PARAM2: 250v, -40~105°C; PARAM: 7A; VALUE: DGVC_3P81_04; Mount Type: THT; Type: Conn.
footprint DGVC_3P81_04 (Terminal Block, 3.81mm pitch, Straight)
pins: 1, 2, 3, 4

## CONN_DGVC_3P81_05
designator J?, comment DGVC_3P81_05  (value not drawn)
Terminal Block Pluggable, Pitch 3.81mm, H 7.1mm; MANF: DEGSON; MANF_P#: 15EDGVC-3.81-05P, KF2EDGV-Y-3.81-05P, mating 15EDGK-3.81; PARAM2: 250v, -40~105°C; PARAM: 7A; VALUE: DGVC_3P81_05; Mount Type: THT; Type: Conn.
footprint DGVC_3P81_05 (Terminal Block, 3.81mm pitch, Straight)
pins: 1, 2, 3, 4, 5

## CONN_DGVC_3P81_06
designator J?, comment DGVC_3P81_06  (value not drawn)
Terminal Block Pluggable, Pitch 3.81mm, H 7.1mm; MANF: DEGSON; MANF_P#: 15EDGVC-3.81-06P, KF2EDGV-Y-3.81-06P, mating 15EDGK-3.81; PARAM2: 250v, -40~105°C; PARAM: 7A; VALUE: DGVC_3P81_06; Mount Type: THT; Type: Conn.
footprint DGVC_3P81_06 (Terminal Block, 3.81mm pitch, Straight)
pins: 1, 2, 3, 4, 5, 6

## CONN_DGVC_3P81_07
designator J?, comment DGVC_3P81_07  (value not drawn)
Terminal Block Pluggable, Pitch 3.81mm, H 7.1mm; MANF: DEGSON; MANF_P#: 15EDGVC-3.81-07P, KF2EDGV-Y-3.81-07P, mating 15EDGK-3.81; PARAM2: 250v, -40~105°C; PARAM: 7A; VALUE: DGVC_3P81_07; Mount Type: THT; Type: Conn.
footprint DGVC_3P81_07 (Terminal Block, 3.81mm pitch, Straight)
pins: 1, 2, 3, 4, 5, 6, 7

## CONN_DGVC_3P81_08
designator J?, comment DGVC_3P81_08  (value not drawn)
Terminal Block Pluggable, Pitch 3.81mm, H 7.1mm; MANF: DEGSON; MANF_P#: 15EDGVC-3.81-08P, KF2EDGV-Y-3.81-08P, mating 15EDGK-3.81; PARAM2: 250v, -40~105°C; PARAM: 7A; VALUE: DGVC_3P81_08; Mount Type: THT; Type: Conn.
footprint DGVC_3P81_08 (Terminal Block, 3.81mm pitch, Straight)
pins: 1, 2, 3, 4, 5, 6, 7, 8

## CONN_DGVC_3P81_09
designator J?, comment DGVC_3P81_09  (value not drawn)
Terminal Block Pluggable, Pitch 3.81mm, H 7.1mm; MANF: DEGSON; MANF_P#: 15EDGVC-3.81-09P, KF2EDGV-Y-3.81-09P, mating 15EDGK-3.81; PARAM2: 250v, -40~105°C; PARAM: 7A; VALUE: DGVC_3P81_09; Mount Type: THT; Type: Conn.
footprint DGVC_3P81_09 (Terminal Block, 3.81mm pitch, Straight)
pins: 1, 2, 3, 4, 5, 6, 7, 8, 9

## CONN_DGVC_3P81_10
designator J?, comment DGVC_3P81_10  (value not drawn)
Terminal Block Pluggable, Pitch 3.81mm, H 7.1mm; MANF: DEGSON; MANF_P#: 15EDGVC-3.81-10P, KF2EDGV-Y-3.81-10P, mating 15EDGK-3.81; PARAM2: 250v, -40~105°C; PARAM: 7A; VALUE: DGVC_3P81_10; Mount Type: THT; Type: Conn.
footprint DGVC_3P81_10 (Terminal Block, 3.81mm pitch, Straight)
pins: 1, 2, 3, 4, 5, 6, 7, 8, 9, 10

## CONN_DGVM_3P81_02
designator J?, comment DGVM_3P81_02  (value not drawn)
Terminal Block Pluggable, Pitch 3.81mm, H 7.1mm, Vertical, Screw fixed; MANF: DEGSON; MANF_P#: 15EDGVM-3.81-02P; PARAM2: 250v, -40~105°C; PARAM: 7A; VALUE: DGVM_3P81_02; Mount Type: THT; Type: Conn.
footprint DGVM_3P81_02 (Terminal Block, 3.81mm pitch, Straight, Screw fixed)
pins: 1, 2

## CONN_DGVM_3P81_03
designator J?, comment DGVM_3P81_03  (value not drawn)
Terminal Block Pluggable, Pitch 3.81mm, H 7.1mm, Vertical, Screw fixed; MANF: DEGSON; MANF_P#: 15EDGVM-3.81-03P; PARAM2: 250v, -40~105°C; PARAM: 7A; VALUE: DGVM_3P81_03; Mount Type: THT; Type: Conn.
footprint DGVM_3P81_03 (Terminal Block, 3.81mm pitch, Straight, Screw fixed)
pins: 1, 2, 3

## CONN_DGVM_3P81_04
designator J?, comment DGVM_3P81_04  (value not drawn)
Terminal Block Pluggable, Pitch 3.81mm, H 7.1mm, Vertical, Screw fixed; MANF: DEGSON; MANF_P#: 15EDGVM-3.81-04P; PARAM2: 250v, -40~105°C; PARAM: 7A; VALUE: DGVM_3P81_04; Mount Type: THT; Type: Conn.
footprint DGVM_3P81_04 (Terminal Block, 3.81mm pitch, Straight, Screw fixed)
pins: 1, 2, 3, 4

## CONN_DGVM_3P81_05
designator J?, comment DGVM_3P81_05  (value not drawn)
Terminal Block Pluggable, Pitch 3.81mm, H 7.1mm, Vertical, Screw fixed; MANF: DEGSON; MANF_P#: 15EDGVM-3.81-05P; PARAM2: 250v, -40~105°C; PARAM: 7A; VALUE: DGVM_3P81_05; Mount Type: THT; Type: Conn.
footprint DGVM_3P81_05 (Terminal Block, 3.81mm pitch, Straight, Screw fixed)
pins: 1, 2, 3, 4, 5

## CONN_DGVM_3P81_06
designator J?, comment DGVM_3P81_06  (value not drawn)
Terminal Block Pluggable, Pitch 3.81mm, H 7.1mm, Vertical, Screw fixed; MANF: DEGSON; MANF_P#: 15EDGVM-3.81-06P; PARAM2: 250v, -40~105°C; PARAM: 7A; VALUE: DGVM_3P81_06; Mount Type: THT; Type: Conn.
footprint DGVM_3P81_06 (Terminal Block, 3.81mm pitch, Straight, Screw fixed)
pins: 1, 2, 3, 4, 5, 6

## CONN_DGVM_3P81_07
designator J?, comment DGVM_3P81_07  (value not drawn)
Terminal Block Pluggable, Pitch 3.81mm, H 7.1mm, Vertical, Screw fixed; MANF: DEGSON; MANF_P#: 15EDGVM-3.81-07P; PARAM2: 250v, -40~105°C; PARAM: 7A; VALUE: DGVM_3P81_07; Mount Type: THT; Type: Conn.
footprint DGVM_3P81_07 (Terminal Block, 3.81mm pitch, Straight, Screw fixed)
pins: 1, 2, 3, 4, 5, 6, 7

## CONN_DGVM_3P81_08
designator J?, comment DGVM_3P81_08  (value not drawn)
Terminal Block Pluggable, Pitch 3.81mm, H 7.1mm, Vertical, Screw fixed; MANF: DEGSON; MANF_P#: 15EDGVM-3.81-08P; PARAM2: 250v, -40~105°C; PARAM: 7A; VALUE: DGVM_3P81_08; Mount Type: THT; Type: Conn.
footprint DGVM_3P81_08 (Terminal Block, 3.81mm pitch, Straight, Screw fixed)
pins: 1, 2, 3, 4, 5, 6, 7, 8

## CONN_DGVM_3P81_09
designator J?, comment DGVM_3P81_09  (value not drawn)
Terminal Block Pluggable, Pitch 3.81mm, H 7.1mm, Vertical, Screw fixed; MANF: DEGSON; MANF_P#: 15EDGVM-3.81-09P; PARAM2: 250v, -40~105°C; PARAM: 7A; VALUE: DGVM_3P81_09; Mount Type: THT; Type: Conn.
footprint DGVM_3P81_09 (Terminal Block, 3.81mm pitch, Straight, Screw fixed)
pins: 1, 2, 3, 4, 5, 6, 7, 8, 9

## CONN_DGVM_3P81_10
designator J?, comment DGVM_3P81_10  (value not drawn)
Terminal Block Pluggable, Pitch 3.81mm, H 7.1mm, Vertical, Screw fixed; MANF: DEGSON; MANF_P#: 15EDGVM-3.81-10P; PARAM2: 250v, -40~105°C; PARAM: 7A; VALUE: DGVM_3P81_10; Mount Type: THT; Type: Conn.
footprint DGVM_3P81_10 (Terminal Block, 3.81mm pitch, Straight, Screw fixed)
pins: 1, 2, 3, 4, 5, 6, 7, 8, 9, 10

## CONN_KF762_02
designator J?, comment KF762_02  (value not drawn)
Terminal Block Barrier, Pitch 7.62mm, H 12.5mm; MANF: CIXI KAIFENG; MANF_P#: KF-762-7.62-02P; PARAM2: 300v, -40~105°C; PARAM: 20A; VALUE: KF762_02; Mount Type: THT; Type: Conn.
footprint KF762_02 (Terminal Screw, pitch 7.62mm, H 12.5mm, KF-762-7.62-xxP)
pins: 1, 2

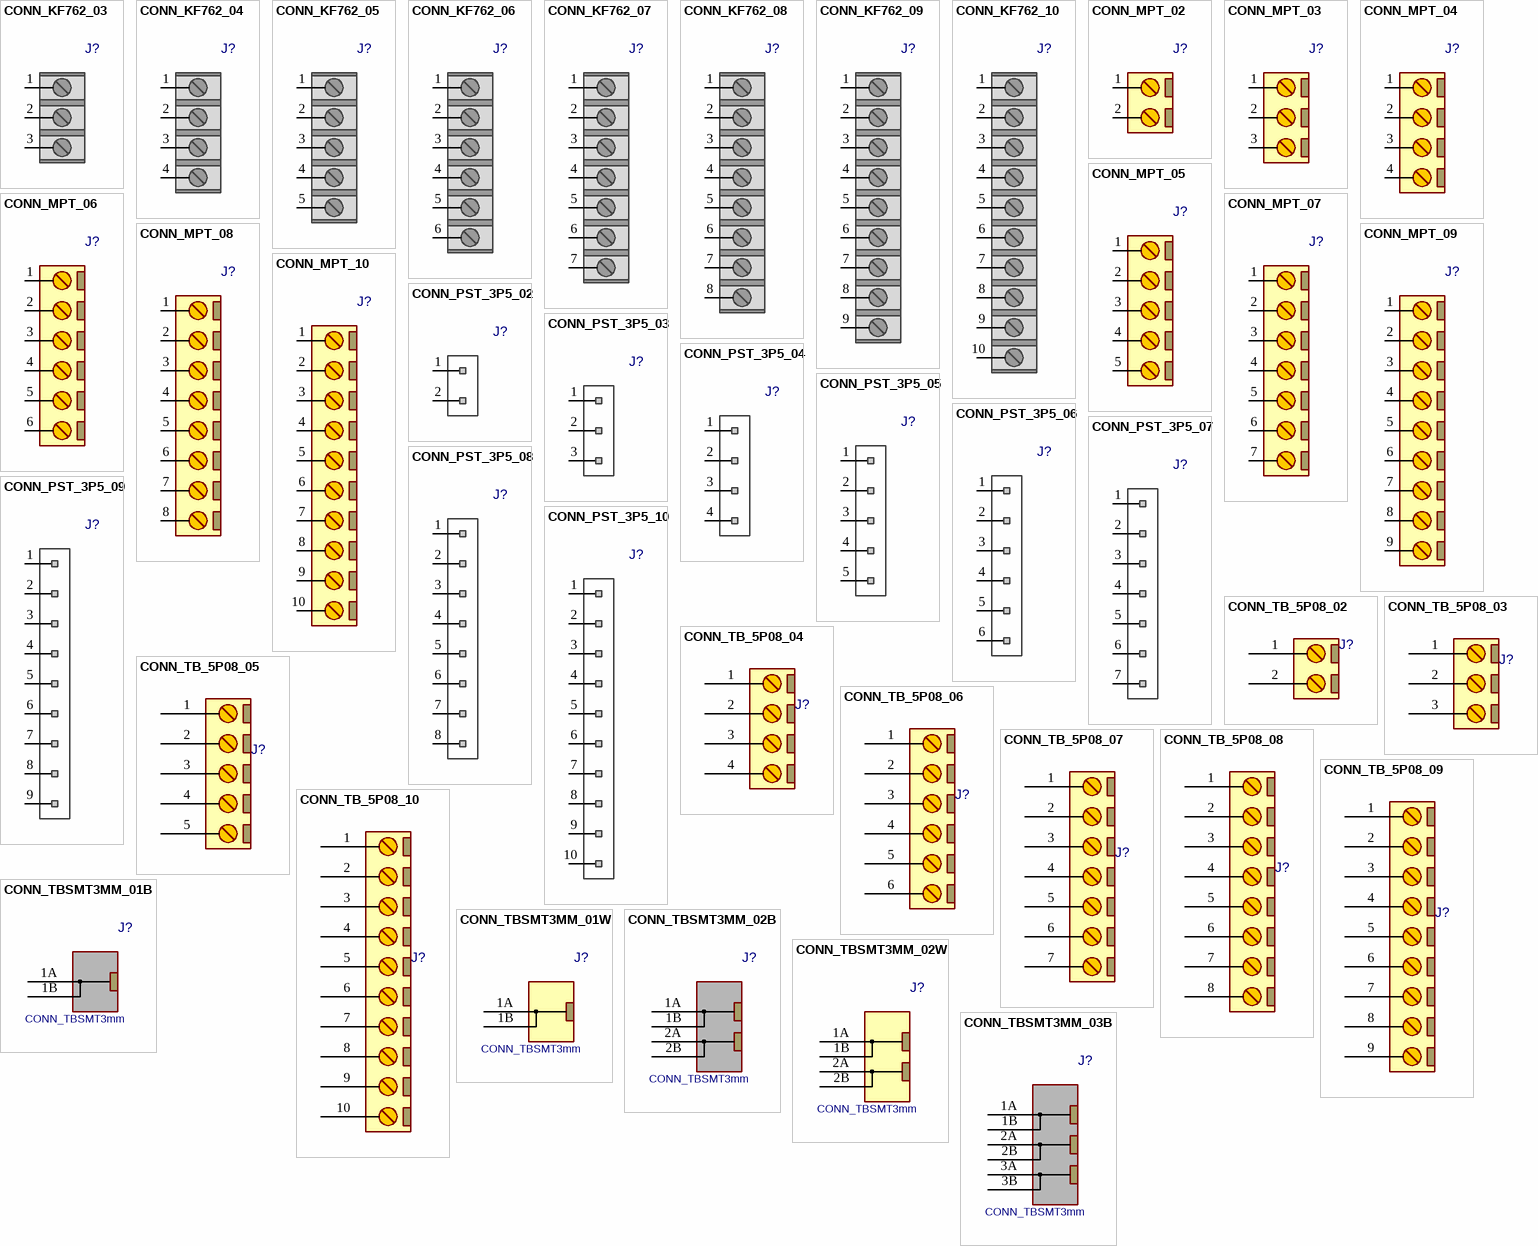
[diagram p12: symbols CONN_KF762_03 to CONN_TBSMT3MM_03B]

## CONN_KF762_03
designator J?, comment KF762_03  (value not drawn)
Terminal Block Barrier, Pitch 7.62mm, H 12.5mm; MANF: CIXI KAIFENG; MANF_P#: KF-762-7.62-03P; PARAM2: 300v, -40~105°C; PARAM: 20A; VALUE: KF762_03; Mount Type: THT; Type: Conn.
footprint KF762_03 (Terminal Screw, pitch 7.62mm, H 12.5mm, KF-762-7.62-xxP)
pins: 1, 2, 3

## CONN_KF762_04
designator J?, comment KF762_04  (value not drawn)
Terminal Block Barrier, Pitch 7.62mm, H 12.5mm; MANF: CIXI KAIFENG; MANF_P#: KF-762-7.62-04P; PARAM2: 300v, -40~105°C; PARAM: 20A; VALUE: KF762_04; Mount Type: THT; Type: Conn.
footprint KF762_04 (Terminal Screw, pitch 7.62mm, H 12.5mm, KF-762-7.62-xxP)
pins: 1, 2, 3, 4

## CONN_KF762_05
designator J?, comment KF762_05  (value not drawn)
Terminal Block Barrier, Pitch 7.62mm, H 12.5mm; MANF: CIXI KAIFENG; MANF_P#: KF-762-7.62-05P; PARAM2: 300v, -40~105°C; PARAM: 20A; VALUE: KF762_05; Mount Type: THT; Type: Conn.
footprint KF762_05 (Terminal Screw, pitch 7.62mm, H 12.5mm, KF-762-7.62-xxP)
pins: 1, 2, 3, 4, 5

## CONN_KF762_06
designator J?, comment KF762_06  (value not drawn)
Terminal Block Barrier, Pitch 7.62mm, H 12.5mm; MANF: CIXI KAIFENG; MANF_P#: KF-762-7.62-06P; PARAM2: 300v, -40~105°C; PARAM: 20A; VALUE: KF762_06; Mount Type: THT; Type: Conn.
footprint KF762_06 (Terminal Screw, pitch 7.62mm, H 12.5mm, KF-762-7.62-xxP)
pins: 1, 2, 3, 4, 5, 6

## CONN_KF762_07
designator J?, comment KF762_07  (value not drawn)
Terminal Block Barrier, Pitch 7.62mm, H 12.5mm; MANF: CIXI KAIFENG; MANF_P#: KF-762-7.62-07P; PARAM2: 300v, -40~105°C; PARAM: 20A; VALUE: KF762_07; Mount Type: THT; Type: Conn.
footprint KF762_07 (Terminal Screw, pitch 7.62mm, H 12.5mm, KF-762-7.62-xxP)
pins: 1, 2, 3, 4, 5, 6, 7

## CONN_KF762_08
designator J?, comment KF762_08  (value not drawn)
Terminal Block Barrier, Pitch 7.62mm, H 12.5mm; MANF: CIXI KAIFENG; MANF_P#: KF-762-7.62-08P; PARAM2: 300v, -40~105°C; PARAM: 20A; VALUE: KF762_08; Mount Type: THT; Type: Conn.
footprint KF762_08 (Terminal Screw, pitch 7.62mm, H 12.5mm, KF-762-7.62-xxP)
pins: 1, 2, 3, 4, 5, 6, 7, 8

## CONN_KF762_09
designator J?, comment KF762_09  (value not drawn)
Terminal Block Barrier, Pitch 7.62mm, H 12.5mm; MANF: CIXI KAIFENG; MANF_P#: KF-762-7.62-09P; PARAM2: 300v, -40~105°C; PARAM: 20A; VALUE: KF762_09; Mount Type: THT; Type: Conn.
footprint KF762_09 (Terminal Screw, pitch 7.62mm, H 12.5mm, KF-762-7.62-xxP)
pins: 1, 2, 3, 4, 5, 6, 7, 8, 9

## CONN_KF762_10
designator J?, comment KF762_10  (value not drawn)
Terminal Block Barrier, Pitch 7.62mm, H 12.5mm; MANF: CIXI KAIFENG; MANF_P#: KF-762-7.62-10P; PARAM2: 300v, -40~105°C; PARAM: 20A; VALUE: KF762_10; Mount Type: THT; Type: Conn.
footprint KF762_10 (Terminal Screw, pitch 7.62mm, H 12.5mm, KF-762-7.62-xxP)
pins: 1, 2, 3, 4, 5, 6, 7, 8, 9, 10

## CONN_MPT_02
designator J?, comment MPT_02  (value not drawn)
Terminal Block Screw, Pitch 2.54mm, H 8.6mm; MANF: PHOENIX; MANF_P#: MPT 0,5/ 2-2,54; PARAM2: 130v, -40~105°C; PARAM: 8A; VALUE: MPT_02; Mount Type: THT; Type: Conn.
footprint MPT_02 (PHOENIX MPT, 2.54mm pitch, MPT 0,5/ 2-2,54)
pins: 1, 2

## CONN_MPT_03
designator J?, comment MPT_03  (value not drawn)
Terminal Block Screw, Pitch 2.54mm, H 8.6mm; MANF: PHOENIX; MANF_P#: MPT 0,5/ 3-2,54; PARAM2: 130v, -40~105°C; PARAM: 8A; VALUE: MPT_03; Mount Type: THT; Type: Conn.
footprint MPT_03 (PHOENIX MPT, 2.54mm pitch, MPT 0,5/ 3-2,54)
pins: 1, 2, 3

## CONN_MPT_04
designator J?, comment MPT_04  (value not drawn)
Terminal Block Screw, Pitch 2.54mm, H 8.6mm; MANF: PHOENIX; MANF_P#: MPT 0,5/ 4-2,54; PARAM2: 130v, -40~105°C; PARAM: 8A; VALUE: MPT_04; Mount Type: THT; Type: Conn.
footprint MPT_04 (PHOENIX MPT, 2.54mm pitch, MPT 0,5/ 4-2,54)
pins: 1, 2, 3, 4

## CONN_MPT_05
designator J?, comment MPT_05  (value not drawn)
Terminal Block Screw, Pitch 2.54mm, H 8.6mm; MANF: PHOENIX; MANF_P#: MPT 0,5/ 5-2,54; PARAM2: 130v, -40~105°C; PARAM: 8A; VALUE: MPT_05; Mount Type: THT; Type: Conn.
footprint MPT_05 (PHOENIX MPT, 2.54mm pitch, MPT 0,5/ 5-2,54)
pins: 1, 2, 3, 4, 5

## CONN_MPT_06
designator J?, comment MPT_06  (value not drawn)
Terminal Block Screw, Pitch 2.54mm, H 8.6mm; MANF: PHOENIX; MANF_P#: MPT 0,5/ 6-2,54; PARAM2: 130v, -40~105°C; PARAM: 8A; VALUE: MPT_06; Mount Type: THT; Type: Conn.
footprint MPT_06 (PHOENIX MPT, 2.54mm pitch, MPT 0,5/ 6-2,54)
pins: 1, 2, 3, 4, 5, 6

## CONN_MPT_07
designator J?, comment MPT_07  (value not drawn)
Terminal Block Screw, Pitch 2.54mm, H 8.6mm; MANF: PHOENIX; MANF_P#: MPT 0,5/ 7-2,54; PARAM2: 130v, -40~105°C; PARAM: 8A; VALUE: MPT_07; Mount Type: THT; Type: Conn.
footprint MPT_07 (PHOENIX MPT, 2.54mm pitch, MPT 0,5/ 7-2,54)
pins: 1, 2, 3, 4, 5, 6, 7

## CONN_MPT_08
designator J?, comment MPT_08  (value not drawn)
Terminal Block Screw, Pitch 2.54mm, H 8.6mm; MANF: PHOENIX; MANF_P#: MPT 0,5/ 8-2,54; PARAM2: 130v, -40~105°C; PARAM: 8A; VALUE: MPT_08; Mount Type: THT; Type: Conn.
footprint MPT_08 (PHOENIX MPT, 2.54mm pitch, MPT 0,5/ 8-2,54)
pins: 1, 2, 3, 4, 5, 6, 7, 8

## CONN_MPT_09
designator J?, comment MPT_09  (value not drawn)
Terminal Block Screw, Pitch 2.54mm, H 8.6mm; MANF: PHOENIX; MANF_P#: MPT 0,5/ 9-2,54; PARAM2: 130v, -40~105°C; PARAM: 8A; VALUE: MPT_09; Mount Type: THT; Type: Conn.
footprint MPT_09 (PHOENIX MPT, 2.54mm pitch, MPT 0,5/ 9-2,54)
pins: 1, 2, 3, 4, 5, 6, 7, 8, 9

## CONN_MPT_10
designator J?, comment MPT_10  (value not drawn)
Terminal Block Screw, Pitch 2.54mm, H 8.6mm; MANF: PHOENIX; MANF_P#: MPT 0,5/ 10-2,54; PARAM2: 130v, -40~105°C; PARAM: 8A; VALUE: MPT_10; Mount Type: THT; Type: Conn.
footprint MPT_10 (PHOENIX MPT, 2.54mm pitch, MPT 0,5/ 10-2,54)
pins: 1, 2, 3, 4, 5, 6, 7, 8, 9, 10

## CONN_PST_3P5_02
designator J?, comment PST_3P5_02  (value not drawn)
Terminal Pin Strip, Pitch 3.5mm, Vertical; MANF: PHOENIX; MANF_P#: PST 1,0/ 10-3,5; PARAM2: 250v, -40~105°C; PARAM: 8A; VALUE: PST_3P5_02; Mount Type: THT; Type: Conn.
footprint PST_3P5_02 (Terminal pin strip, Pitch 3.5mm, PST 1,0/ x-3,5)
footprint PST_3P5_02_ASSY (Terminal pin strip, Pitch 3.5mm, PST 1,0/ x-3,5)
pins: 1, 2

## CONN_PST_3P5_03
designator J?, comment PST_3P5_03  (value not drawn)
Terminal Pin Strip, Pitch 3.5mm, Vertical; MANF: PHOENIX; MANF_P#: PST 1,0/ 2-3,5; PARAM2: 250v, -40~105°C; PARAM: 8A; VALUE: PST_3P5_03; Mount Type: THT; Type: Conn.
footprint PST_3P5_03 (Terminal pin strip, Pitch 3.5mm, PST 1,0/ x-3,5)
pins: 1, 2, 3

## CONN_PST_3P5_04
designator J?, comment PST_3P5_04  (value not drawn)
Terminal Pin Strip, Pitch 3.5mm, Vertical; MANF: PHOENIX; MANF_P#: PST 1,0/ 3-3,5; PARAM2: 250v, -40~105°C; PARAM: 8A; VALUE: PST_3P5_04; Mount Type: THT; Type: Conn.
footprint PST_3P5_04 (Terminal pin strip, Pitch 3.5mm, PST 1,0/ x-3,5)
pins: 1, 2, 3, 4

## CONN_PST_3P5_05
designator J?, comment PST_3P5_05  (value not drawn)
Terminal Pin Strip, Pitch 3.5mm, Vertical; MANF: PHOENIX; MANF_P#: PST 1,0/ 4-3,5; PARAM2: 250v, -40~105°C; PARAM: 8A; VALUE: PST_3P5_05; Mount Type: THT; Type: Conn.
footprint PST_3P5_05 (Terminal pin strip, Pitch 3.5mm, PST 1,0/ x-3,5)
pins: 1, 2, 3, 4, 5

## CONN_PST_3P5_06
designator J?, comment PST_3P5_06  (value not drawn)
Terminal Pin Strip, Pitch 3.5mm, Vertical; MANF: PHOENIX; MANF_P#: PST 1,0/ 5-3,5; PARAM2: 250v, -40~105°C; PARAM: 8A; VALUE: PST_3P5_06; Mount Type: THT; Type: Conn.
footprint PST_3P5_06 (Terminal pin strip, Pitch 3.5mm, PST 1,0/ x-3,5)
pins: 1, 2, 3, 4, 5, 6

## CONN_PST_3P5_07
designator J?, comment PST_3P5_07  (value not drawn)
Terminal Pin Strip, Pitch 3.5mm, Vertical; MANF: PHOENIX; MANF_P#: PST 1,0/ 6-3,5; PARAM2: 250v, -40~105°C; PARAM: 8A; VALUE: PST_3P5_07; Mount Type: THT; Type: Conn.
footprint PST_3P5_07 (Terminal pin strip, Pitch 3.5mm, PST 1,0/ x-3,5)
pins: 1, 2, 3, 4, 5, 6, 7

## CONN_PST_3P5_08
designator J?, comment PST_3P5_08  (value not drawn)
Terminal Pin Strip, Pitch 3.5mm, Vertical; MANF: PHOENIX; MANF_P#: PST 1,0/ 7-3,5; PARAM2: 250v, -40~105°C; PARAM: 8A; VALUE: PST_3P5_08; Mount Type: THT; Type: Conn.
footprint PST_3P5_08 (Terminal pin strip, Pitch 3.5mm, PST 1,0/ x-3,5)
pins: 1, 2, 3, 4, 5, 6, 7, 8

## CONN_PST_3P5_09
designator J?, comment PST_3P5_09  (value not drawn)
Terminal Pin Strip, Pitch 3.5mm, Vertical; MANF: PHOENIX; MANF_P#: PST 1,0/ 8-3,5; PARAM2: 250v, -40~105°C; PARAM: 8A; VALUE: PST_3P5_09; Mount Type: THT; Type: Conn.
footprint PST_3P5_09 (Terminal pin strip, Pitch 3.5mm, PST 1,0/ x-3,5)
pins: 1, 2, 3, 4, 5, 6, 7, 8, 9

## CONN_PST_3P5_10
designator J?, comment PST_3P5_10  (value not drawn)
Terminal Pin Strip, Pitch 3.5mm, Vertical; MANF: PHOENIX; MANF_P#: PST 1,0/ 9-3,5; PARAM2: 250v, -40~105°C; PARAM: 8A; VALUE: PST_3P5_10; Mount Type: THT; Type: Conn.
footprint PST_3P5_10 (Terminal pin strip, Pitch 3.5mm, PST 1,0/ x-3,5)
pins: 1, 2, 3, 4, 5, 6, 7, 8, 9, 10

## CONN_TB_5P08_02
designator J?, comment CONN_TB2  (value not drawn)
Terminal Block Screw, Pitch 5.08mm; PARAM2: 250v, -20~70°C; PARAM: 8A; VALUE: CONN_TB2; Mount Type: THT; Type: Conn.
footprint TBG_02 (Terminal Block Green)
footprint TBB_02 (Terminal Block Blue)
pins: 1, 2

## CONN_TB_5P08_03
designator J?, comment CONN_TB3  (value not drawn)
Terminal Block Screw, Pitch 5.08mm; PARAM2: 250v, -20~70°C; PARAM: 8A; VALUE: CONN_TB3; Mount Type: THT; Type: Conn.
footprint TBG_03 (Terminal Block Green)
footprint TBB_03 (Terminal Block Blue)
pins: 1, 2, 3

## CONN_TB_5P08_04
designator J?, comment CONN_TB4  (value not drawn)
Terminal Block Screw, Pitch 5.08mm; PARAM2: 250v, -20~70°C; PARAM: 8A; VALUE: CONN_TB4; Mount Type: THT; Type: Conn.
footprint TBG_04 (Terminal Block Green)
footprint TBB_04 (Terminal Block Blue)
pins: 1, 2, 3, 4

## CONN_TB_5P08_05
designator J?, comment CONN_TB5  (value not drawn)
Terminal Block Screw, Pitch 5.08mm; PARAM2: 250v, -20~70°C; PARAM: 8A; VALUE: CONN_TB5; Mount Type: THT; Type: Conn.
footprint TBG_05 (Terminal Block Green)
footprint TBB_05 (Terminal Block Blue)
pins: 1, 2, 3, 4, 5

## CONN_TB_5P08_06
designator J?, comment CONN_TB6  (value not drawn)
Terminal Block Screw, Pitch 5.08mm; PARAM2: 250v, -20~70°C; PARAM: 8A; VALUE: CONN_TB6; Mount Type: THT; Type: Conn.
footprint TBG_06 (Terminal Block Green)
footprint TBB_06 (Terminal Block Blue)
pins: 1, 2, 3, 4, 5, 6

## CONN_TB_5P08_07
designator J?, comment CONN_TB7  (value not drawn)
Terminal Block Screw, Pitch 5.08mm; PARAM2: 250v, -20~70°C; PARAM: 8A; VALUE: CONN_TB7; Mount Type: THT; Type: Conn.
footprint TBG_07 (Terminal Block Green)
footprint TBB_07 (Terminal Block Blue)
pins: 1, 2, 3, 4, 5, 6, 7

## CONN_TB_5P08_08
designator J?, comment CONN_TB8  (value not drawn)
Terminal Block Screw, Pitch 5.08mm; PARAM2: 250v, -20~70°C; PARAM: 8A; VALUE: CONN_TB8; Mount Type: THT; Type: Conn.
footprint TBG_08 (Terminal Block Green)
footprint TBB_08 (Terminal Block Blue)
pins: 1, 2, 3, 4, 5, 6, 7, 8

## CONN_TB_5P08_09
designator J?, comment CONN_TB9  (value not drawn)
Terminal Block Screw, Pitch 5.08mm; PARAM2: 250v, -20~70°C; PARAM: 8A; VALUE: CONN_TB9; Mount Type: THT; Type: Conn.
footprint TBG_09 (Terminal Block Green)
footprint TBB_09 (Terminal Block Blue)
pins: 1, 2, 3, 4, 5, 6, 7, 8, 9

## CONN_TB_5P08_10
designator J?, comment CONN_TB10  (value not drawn)
Terminal Block Screw, Pitch 5.08mm; PARAM2: 250v, -20~70°C; PARAM: 8A; VALUE: CONN_TB10; Mount Type: THT; Type: Conn.
footprint TBG_10 (Terminal Block Green)
footprint TBB_10 (Terminal Block Blue)
pins: 1, 2, 3, 4, 5, 6, 7, 8, 9, 10

## CONN_TBSMT3MM_01B
designator J?, comment CONN_TBSMT3mm
Terminal Block Spring, Pitch 3mm, SMT, Black; MANF: WAGO; MANF_P#: 2059-321/998-403; PARAM2: 250V; PARAM: 3A, 22-26 AWG; Mount Type: SMT; Type: Conn.; VALUE: CONN_TBSMT3mm
footprint TBSMT3MM_01B (Conn TB, SMT 3mm pitch, Black, 2059-321/998-403)
pins: 1A, 1B

## CONN_TBSMT3MM_01W
designator J?, comment CONN_TBSMT3mm
Terminal Block Spring, Pitch 3mm, SMT, White; MANF: WAGO; MANF_P#: 2059-301/998-403; PARAM2: 250V; PARAM: 3A, 22-26 AWG; Mount Type: SMT; Type: Conn.; VALUE: CONN_TBSMT3mm
footprint TBSMT3MM_01W (Conn TB, SMT 3mm pitch, White, 2059-301/998-403)
pins: 1A, 1B

## CONN_TBSMT3MM_02B
designator J?, comment CONN_TBSMT3mm
Terminal Block Spring, Pitch 3mm, SMT, Black; MANF: WAGO; MANF_P#: 2059-322/998-403; PARAM2: 250V; PARAM: 3A, 22-26 AWG; Mount Type: SMT; Type: Conn.; VALUE: CONN_TBSMT3mm
footprint TBSMT3MM_02B (Conn TB, SMT 3mm pitch, Black, 2059-322/998-403)
pins: 1A, 1B, 2A, 2B

## CONN_TBSMT3MM_02W
designator J?, comment CONN_TBSMT3mm
Terminal Block Spring, Pitch 3mm, SMT, White; MANF: WAGO; MANF_P#: 2059-302/998-403; PARAM2: 250V; PARAM: 3A, 22-26 AWG; Mount Type: SMT; Type: Conn.; VALUE: CONN_TBSMT3mm
footprint TBSMT3MM_02W (Conn TB, SMT 3mm pitch, White, 2059-302/998-403)
pins: 1A, 1B, 2A, 2B

## CONN_TBSMT3MM_03B
designator J?, comment CONN_TBSMT3mm
Terminal Block Spring, Pitch 3mm, SMT, Black; MANF: WAGO; MANF_P#: 2059-323/998-403; PARAM2: 250V; PARAM: 3A, 22-26 AWG; Mount Type: SMT; Type: Conn.; VALUE: CONN_TBSMT3mm
footprint TBSMT3MM_03B (Conn TB, SMT 3mm pitch, Black, 2059-323/998-403)
pins: 1A, 1B, 2A, 2B, 3A, 3B

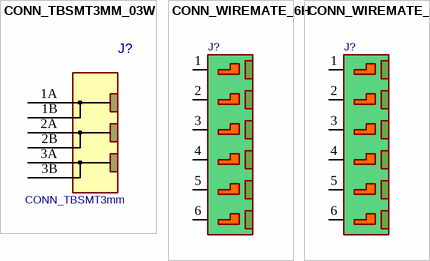
[diagram p13: symbols CONN_TBSMT3MM_03W to CONN_WIREMATE_6V]

## CONN_TBSMT3MM_03W
designator J?, comment CONN_TBSMT3mm
Terminal Block Spring, Pitch 3mm, SMT, White; MANF: WAGO; MANF_P#: 2059-303/998-403; PARAM2: 250V; PARAM: 3A, 22-26 AWG; Mount Type: SMT; Type: Conn.; VALUE: CONN_TBSMT3mm
footprint TBSMT3MM_03W (Conn TB, SMT 3mm pitch, White, 2059-303/998-403)
pins: 1A, 1B, 2A, 2B, 3A, 3B

## CONN_WIREMATE_6H
designator J?, comment WIREMATE_6  (value not drawn)
Terminal Block Spring, Pitch 2.54mm, WireMate; MANF: TE; MANF_P#: 1-2834016-6; PARAM2: -40~105°C; PARAM: 6A, Horizontal; VALUE: WIREMATE_6; PRICE: 1.5$; Mount Type: THT; Type: Conn.
footprint WIREMATE_6H (WIRE MATE 6, TE, pitch 2.54mm, Horizontal)
pins: 1, 2, 3, 4, 5, 6

## CONN_WIREMATE_6V
designator J?, comment WIREMATE_6  (value not drawn)
Terminal Block Spring, Pitch 2.54mm, WireMate; MANF: TE; MANF_P#: 1-2834015-6; PARAM2: -40~105°C; PARAM: 6A, Vertical; VALUE: WIREMATE_6; PRICE: 1.5$; Mount Type: THT; Type: Conn.
footprint WIREMATE_6V (WIRE MATE 6, TE, pitch 2.54mm, Vertical)
pins: 1, 2, 3, 4, 5, 6